# EAGLE library part MODULE_CON (library DEEP_MainBoard)
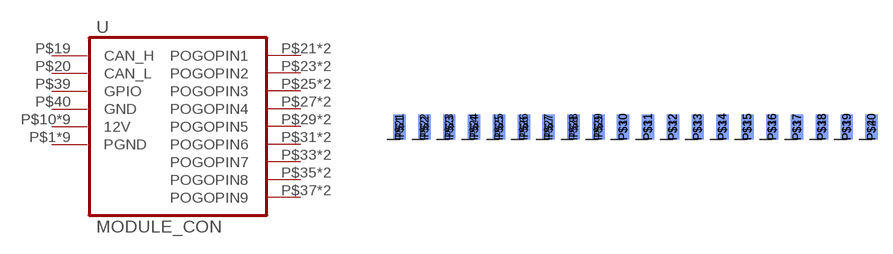
[diagram p6: symbol with the pads of MODULE_CON; footprint MODULE_CON]

Designator prefix -

## MODULE_CON  [MODULE_CON]
P$1  PGND
P$2  PGND
P$3  PGND
P$4  PGND
P$5  PGND
P$6  PGND
P$7  PGND
P$8  PGND
P$9  PGND
P$10  12V
P$11  12V
P$12  12V
P$13  12V
P$14  12V
P$15  12V
P$16  12V
P$17  12V
P$18  12V
P$19  CAN_H
P$20  CAN_L
P$21  POGOPIN1
P$22  POGOPIN1
P$23  POGOPIN2
P$24  POGOPIN2
P$25  POGOPIN3
P$26  POGOPIN3
P$27  POGOPIN4
P$28  POGOPIN4
P$29  POGOPIN5
P$30  POGOPIN5
P$31  POGOPIN6
P$32  POGOPIN6
P$33  POGOPIN7
P$34  POGOPIN7
P$35  POGOPIN8
P$36  POGOPIN8
P$37  POGOPIN9
P$38  POGOPIN9
P$39  GPIO
P$40  GND

## Footprint MODULE_CON (pad centres in mm)
PIN HEADER
smd 1.27 x 2.54: P$1 -24.003,1.397; P$2 -21.463,1.397; P$3 -18.923,1.397; P$4 -16.383,1.397; P$5 -13.843,1.397; P$6 -11.303,1.397; P$7 -8.763,1.397; P$8 -6.223,1.397; P$9 -3.683,1.397; P$10 -1.143,1.397; P$11 1.397,1.397; P$12 3.937,1.397; P$13 6.477,1.397; P$14 9.017,1.397; P$15 11.557,1.397; P$16 14.097,1.397; P$17 16.637,1.397; P$18 19.177,1.397; P$19 21.717,1.397; P$20 24.257,1.397
smd 1.27 x 2.54 bottom: P$21 -24.003,1.397; P$22 -21.463,1.397; P$23 -18.923,1.397; P$24 -16.383,1.397; P$25 -13.843,1.397; P$26 -11.303,1.397; P$27 -8.763,1.397; P$28 -6.223,1.397; P$29 -3.683,1.397; P$30 -1.143,1.397; P$31 1.397,1.397; P$32 3.937,1.397; P$33 6.477,1.397; P$34 9.017,1.397; P$35 11.557,1.397; P$36 14.097,1.397; P$37 16.637,1.397; P$38 19.177,1.397; P$39 21.717,1.397; P$40 24.257,1.397